# Altium schematic symbol library Tp_Integrador-SchLib.SchLib: 13 symbols
Pins are listed as number, name and electrical type; pins without a type are passive.

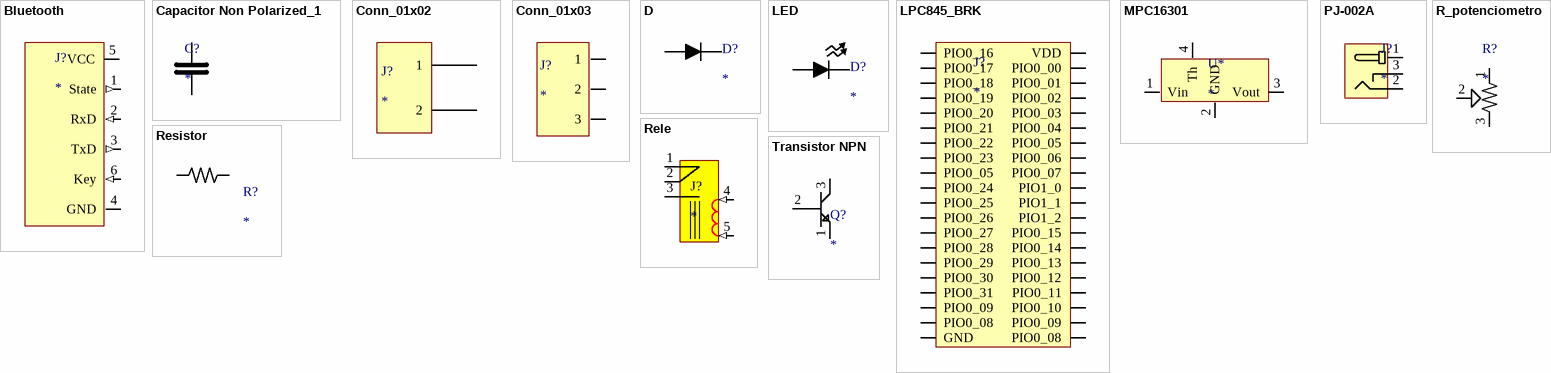
[diagram p0: symbols Bluetooth to Transistor NPN]

## Bluetooth
designator J?
Header 6x1
pins: 1 State (out), 2 RxD (in), 3 TxD (out), 4 GND (power), 5 VCC (power), 6 Key (in)

## Capacitor Non Polarized_1
designator C?
Capacitor NP
pins: 1, 2

## Conn_01x02
designator J?
Header 2x1
pins: 1, 2

## Conn_01x03
designator J?
Header 3x1
pins: 1, 2, 3

## D
designator D?
DIODO
pins: 1 A, 2 K

## LED
designator D?
Led
pins: 1 A, 2 K

## LPC845_BRK
designator J?
LPC845 breakoutBoard
pins: 1 PIO0_16 (io), 2 PIO0_17 (io), 3 PIO0_18 (io), 4 PIO0_19 (io), 5 PIO0_20 (io), 6 PIO0_21 (io), 7 PIO0_22 (io), 8 PIO0_23 (io), 9 PIO0_05 (io), 10 PIO0_24 (io), 11 PIO0_25 (io), 12 PIO0_26 (io), 13 PIO0_27 (io), 14 PIO0_28 (io), 15 PIO0_29 (io), 16 PIO0_30 (io), 17 PIO0_31 (io), 18 PIO0_09 (io), 19 PIO0_08 (io), 20 GND, 21 PIO0_08 (io), 22 PIO0_09 (io), 23 PIO0_10 (io), 24 PIO0_11 (io), 25 PIO0_12 (io), 26 PIO0_13 (io), 27 PIO0_14 (io), 28 PIO0_15 (io), 29 PIO1_2 (io), 30 PIO1_1 (io), 31 PIO1_0 (io), 32 PIO0_07 (io), 33 PIO0_06 (io), 34 PIO0_05 (io), 35 PIO0_04 (io), 36 PIO0_03 (io), 37 PIO0_02 (io), 38 PIO0_01 (io), 39 PIO0_00 (io), 40 VDD (power)

## MPC16301
designator U*
Regulador Lineal
pins: 1 Vin, 2 GND, 3 Vout, 4 Th

## PJ-002A
designator J?
pins: 1 (power), 2, 3 (power)

## R_potenciometro
designator R?
pins: 1, 2, 3

## Rele
designator J?
pins: 1, 2, 3, 4 (in), 5 (in)

## Resistor
designator R?
Resistor
pins: 1, 2

## Transistor NPN
designator Q?
Transistor NPN
pins: 1, 2, 3